# EAGLE library part 691121710006 (library Wurth_Elektronik_Electromechanic_Terminal_Blocks_Connectors_rev15c)
WR-TBL Serie 121 - 5.0mm Horizontal Entry Modular With Pressure Clamp - 3.3mm2 Wires, 6 Pins
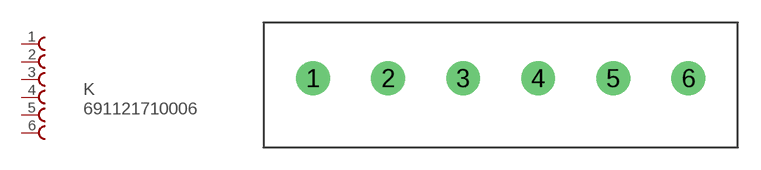
[diagram p3: symbol with the pads of 691121710006; footprint 691121710006]

Designator prefix K

## 691121710006  [691121710006]
1  1  pas
2  2  pas
3  3  pas
4  4  pas
5  5  pas
6  6  pas

## Footprint 691121710006 (pad centres in mm)
WR-TBL Serie 121 - 5.0mm Horizontal Entry Modular With Pressure Clamp - 3.3mm2 Wires, 6 Pins
drill 1.5: 1 -5,0; 2 0,0; 3 5,0; 4 10,0; 5 15,0; 6 20,0